# Altium schematic symbol library TR2I.Schlib: 1 symbol
Pins are listed as number, name and electrical type; pins without a type are passive.

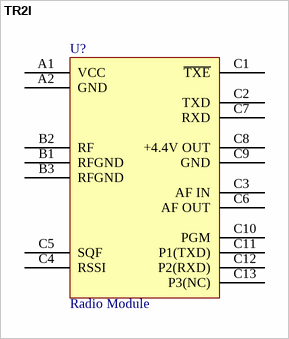
[diagram p0: symbol TR2I]

## TR2I
designator U?, comment Radio Module
pins: A1 VCC, A2 GND, B1 RFGND, B2 RF, B3 RFGND, C1 ~{TXE}, C2 TXD, C3 AF IN, C4 RSSI, C5 SQF, C6 AF OUT, C7 RXD, C8 +4.4V OUT, C9 GND, C10 PGM, C11 P1(TXD), C12 P2(RXD), C13 P3(NC)
1 alternate drawing of the same symbol